# Altium schematic symbol library Schlib1.SchLib: 5 symbols
Pins are listed as number, name and electrical type; pins without a type are passive.

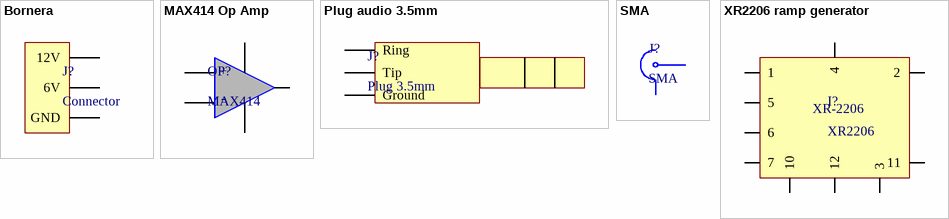
[diagram p0: symbols Bornera to XR2206 ramp generator]

## Bornera
designator J?, comment Connector
pins: 0 GND, 1 6V, 2 12V

## MAX414 Op Amp
designator OP?, comment MAX414
pins: + 1, - 2, GND, out 3, VCC +12

## Plug audio 3.5mm
designator J?, comment Plug 3.5mm
pins: Left Tip, Right Ring, Sleeve Ground

## SMA
designator J?
pins: 1, 2

## XR2206 ramp generator
designator I?, comment XR2206
pins: 1, 2, 3, 4, 5, 6, 7, 10, 11, 12
text: XR-2206